# Altium footprint library BD140.PcbLib: 1 footprints
Each footprint in its own frame and in the unit in brackets; x right, y up, seen from the top. Pads: shape width x height; smd on the part's side, far side on the other; paste and mask are expansions set on the pad; w line width, h text height; cw(c..) or ccw(c..) is an arc to the next point about the centre after c.
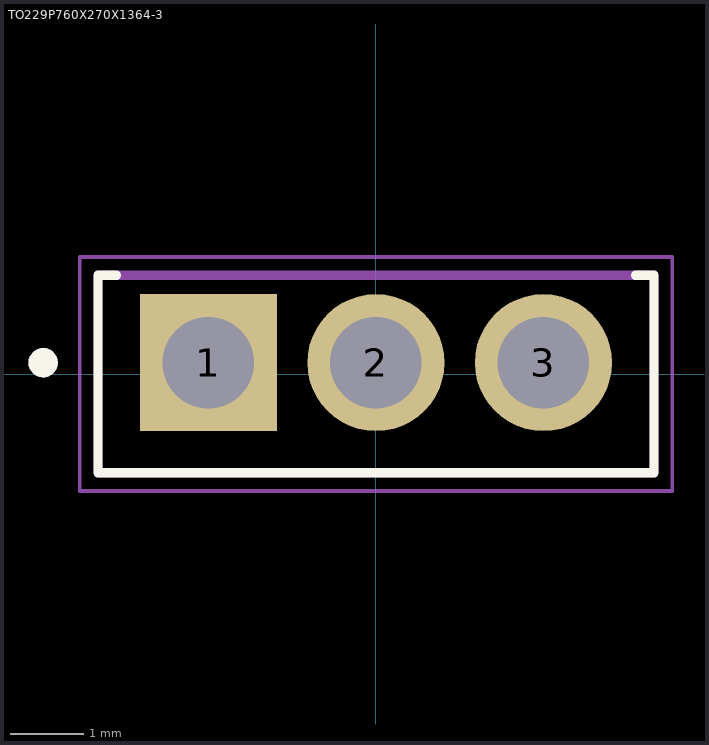
[diagram p0: the footprint, top view; thin cyan lines are the x and y axes]

## TO229P760X270X1364-3 [mm]
height 13.64
pads (3):
  rect 1.875x1.875 / inner round 1.875 / far side rect 1.875x1.875 hole 1.25: 1(-2.29,0.155)
  round 1.875 hole 1.25: 2(0,0.155) 3(2.29,0.155)
Top Overlay:
  circle w0.2: c-4.55,0.155 r0.1
  lines w0.127: -3.548,1.35 -3.8,1.35 -3.8,-1.35 3.8,-1.35 3.8,1.35 3.548,1.35
Mechanical 13:
  circle w0.2: c-4.55,0.155 r0.1
  lines w0.127: -3.8,-1.35 3.8,-1.35 3.8,1.35 -3.8,1.35 -3.8,-1.35
Mechanical 15:
  lines w0.05: -4.05,-1.6 -4.05,1.6 4.05,1.6 4.05,-1.6 -4.05,-1.6
3D body "step_temp.STEP": height 13.64, standoff -14.09, extent -3.8,-1.35 3.8,1.35